# Altium footprint library FootPrintLib_4.PcbLib: 700 footprints (part 28 of 44)
Each footprint in its own frame and in the unit in brackets; x right, y up, seen from the top. Pads: shape width x height; smd on the part's side, far side on the other; paste and mask are expansions set on the pad; w line width, h text height; cw(c..) or ccw(c..) is an arc to the next point about the centre after c.
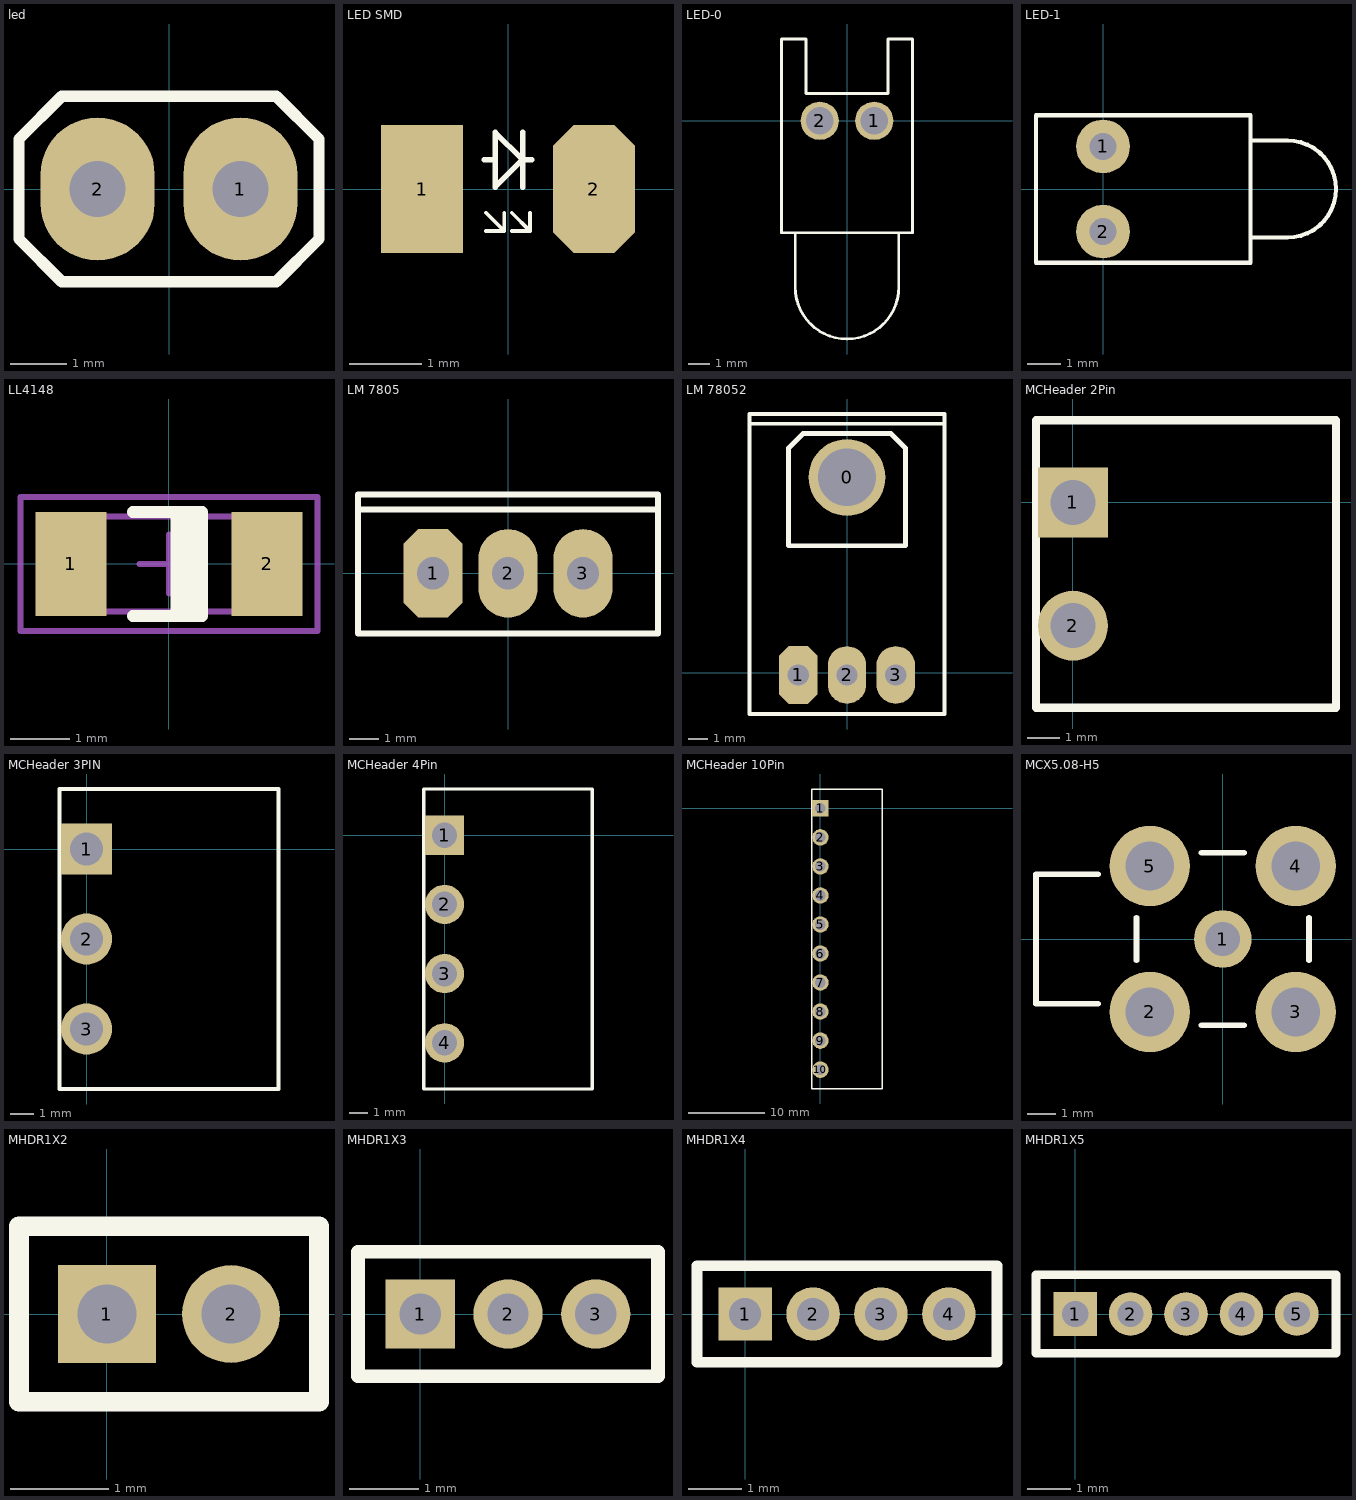
[diagram p27: the footprints below, top view; thin cyan lines are the x and y axes]

## led [mm]
pads (2):
  oval 2.032x2.54 hole 1: 1(1.27,0) 2(-1.27,0)
Top Overlay:
  lines w0.203: -2.667,-0.889 -2.667,0.889 -1.905,1.651 1.905,1.651 2.667,0.889 2.667,-0.889 1.905,-1.651 -1.905,-1.651 -2.667,-0.889

## LED SMD [mil]
pads (2):
  rect 45x70 smd: 1(-47,0)
  oct 45x70 smd: 2(47,0)
Top Overlay:
  lines w2: -12,-23 -2,-23 ; -12,-13 -2,-23 ; -2,-13 -2,-23 ; 2,-23 12,-23 ; 2,-13 12,-23 ; 12,-13 12,-23
  lines w3: -13,16 -7,16 ; 8,1 8,31 ; 13,16 8,16 ; 8,16 -7,31 -7,1 8,16

## LED-0 [mil] "LED; 2 Leads"
pads (2):
  round 70 hole 50: 1(50,0) 2(-50,0)
Top Overlay:
  lines w5: -95,-205 -95,-305 ccw(c0,-305) 95,-305 95,-205 ; -120,-205 120,-205 120,150 75,150 75,50 -75,50 -75,150 -120,150 -120,-205

## LED-1 [mm] "LED; 2 Leads"
pads (2):
  round 1.6 hole 0.8: 1(0,1.27) 2(0,-1.27)
Top Overlay:
  lines w0.127: 4.4,-1.45 5.5,-1.45 ccw(c5.5,0) 5.5,1.45 4.4,1.45 ; -2,-2.2 4.4,-2.2 4.4,2.2 -2,2.2 -2,-2.2

## LL4148 [mm] "MELF Diode, 2-Leads, Body 3.5x1.4mm, IPC Medium Density"
height 1.6
pads (2):
  rect 1.2x1.75 smd: 1(-1.65,0) 2(1.65,0)
Top Overlay:
  region: 0.573,0.875 0.023,0.875 0.023,-0.875 0.573,-0.875
  lines w0.2: -0.61,-0.875 0.559,-0.875 0.559,0.875 -0.61,0.875
Mechanical 13:
  rectangle: -1.85,-0.8 -1.352,0.8
  lines w0.1: -1.85,-0.8 1.85,-0.8 1.85,0.8 -1.85,0.8 -1.85,-0.8
Mechanical 15:
  lines w0.1: -0.5,0 0.5,0 ; 0,-0.5 0,0.5 ; -2.5,-1.125 2.5,-1.125 2.5,1.125 -2.5,1.125 -2.5,-1.125
3D body "User Library-Diode MELF.STEP": height 1.55, standoff 0.05, extent -1.775,-0.75 1.725,0.75

## LM 7805 [mm]
pads (3):
  oct 2x3 hole 1.1: 1(-2.54,0)
  oval 2x3 hole 1.1: 2(0,0) 3(2.54,0)
Top Overlay:
  lines w0.203: -5.08,2.413 -5.08,-2.032 5.08,-2.032 5.08,2.413 ; -5.08,2.159 -5.08,2.667 5.08,2.667 5.08,2.159 -5.08,2.159

## LM 78052 [mm]
pads (4):
  round 4 hole 3: 0(0,10.16)
  oct 2x3 hole 1.1: 1(-2.54,-0.127)
  oval 2x3 hole 1.1: 2(0,-0.127) 3(2.54,-0.127)
Top Overlay:
  lines w0.203: -5.08,13.208 -5.08,-2.159 5.08,-2.159 5.08,13.462 ; 5.08,13.462 5.08,12.954 -5.08,12.954 -5.08,13.462 5.08,13.462
  lines w0.254: -3.048,6.604 -3.048,11.684 -2.286,12.446 2.286,12.446 3.048,11.684 3.048,6.604 -3.048,6.604

## MCHeader 2Pin [mil]
pads (2):
  rect 85x85 hole 55: 1(0,0)
  round 85 hole 55: 2(0,-150)
Top Overlay:
  lines w10: -45,-250 -45,100 320,100 320,-250 -45,-250
3D body "mini combicon header 2pin.STEP": height 292.32, standoff -130.12, extent -43.09,-247.85 321.09,99

## MCHeader 3PIN [mil]
pads (3):
  rect 85x85 hole 55: 1(0,0)
  round 85 hole 55: 2(0,-150) 3(0,-300)
Top Overlay:
  lines w7: -45,-400 320,-400 320,100 -45,100 -45,-400
3D body "mini combicon header 3pin.STEP": height 292.32, standoff -130.12, extent -46.09,-399 318.09,97.85

## MCHeader 4Pin [mil]
pads (4):
  rect 85x85 hole 55: 1(0,0)
  round 85 hole 55: 2(0,-150) 3(0,-300) 4(0,-450)
Top Overlay:
  lines w7: -45,-550 -45,100 320,100 320,-550 -45,-550
3D body "mini combicon header 4pin.STEP": height 292.32, standoff -130.12, extent -49.09,-550.85 315.09,96

## MCHeader 10Pin [mil]
pads (10):
  rect 85x85 hole 55: 1(0,0)
  round 85 hole 55: 2(0,-150) 3(0,-300) 4(0,-450) 5(0,-600) 6(0,-750) 7(0,-900) 8(0,-1050) 9(0,-1200) 10(0,-1350)
Top Overlay:
  lines w7: -45,-1450 320,-1450 320,100 -45,100 -45,-1450
3D body "mini combicon header 10pin.STEP": height 292.32, standoff -130.12, extent -47.09,-1446.85 317.09,100

## MCX5.08-H5 [mm] "Connector; RF Coaxial, MCX, Thru-Hole; 5 Position; Right-Angle"
height 5.85
pads (5):
  round 2 hole 1.2: 1(0,0)
  round 2.8 hole 1.7: 2(-2.54,-2.54) 3(2.54,-2.54) 4(2.54,2.54) 5(-2.54,2.54)
Top Overlay:
  lines w0.2: -4.34,-2.25 -6.5,-2.25 -6.5,2.25 -4.34,2.25 ; -3,-0.74 -3,0.74 ; -0.74,-3 0.74,-3 ; -0.74,3 0.74,3 ; 3,-0.74 3,0.74

## MHDR1X2 [mm] "Connector; Header; 2 Position"
pads (2):
  rect 1x1 hole 0.6: 1(0,0)
  round 1 hole 0.6: 2(1.27,0)
Top Overlay:
  lines w0.2: -0.9,-0.9 -0.9,0.9 2.17,0.9 2.17,-0.9 -0.9,-0.9

## MHDR1X3 [mm] "Connector; Header; 3 Position"
pads (3):
  rect 1x1 hole 0.6: 1(0,0)
  round 1 hole 0.6: 2(1.27,0) 3(2.54,0)
Top Overlay:
  lines w0.2: -0.9,-0.9 3.44,-0.9 3.44,0.9 -0.9,0.9 -0.9,-0.9

## MHDR1X4 [mm] "Connector; Header; 4 Position"
pads (4):
  rect 1x1 hole 0.6: 1(0,0)
  round 1 hole 0.6: 2(1.27,0) 3(2.54,0) 4(3.81,0)
Top Overlay:
  lines w0.2: -0.9,-0.9 -0.9,0.9 4.71,0.9 4.71,-0.9 -0.9,-0.9

## MHDR1X5 [mm] "Connector; Header; 5 Position"
pads (5):
  rect 1x1 hole 0.6: 1(0,0)
  round 1 hole 0.6: 2(1.27,0) 3(2.54,0) 4(3.81,0) 5(5.08,0)
Top Overlay:
  lines w0.2: -0.9,-0.9 -0.9,0.9 5.98,0.9 5.98,-0.9 -0.9,-0.9